# Altium schematic symbol library 74HC20.SchLib: 1 symbol
Pins are listed as number, name and electrical type; pins without a type are passive.

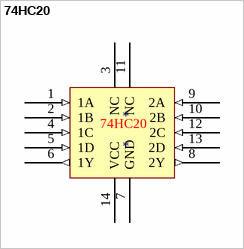
[diagram p0: symbol 74HC20]

## 74HC20
designator *
footprint SOP127P636-14N (SOP, 14-Leads, Body 11x4.7mm, Pitch 1.27mm, IPC Medium Density)
pins: 1 1A (in), 2 1B (in), 3 NC, 4 1C (in), 5 1D (in), 6 1Y (out), 7 GND (power), 8 2Y (out), 9 2A (in), 10 2B (in), 11 NC, 12 2C (in), 13 2D (in), 14 VCC (power)